# Altium schematic symbol library LITEON.SchLib: 1 symbol
Pins are listed as number, name and electrical type; pins without a type are passive.

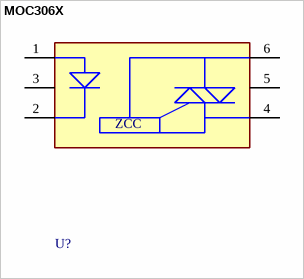
[diagram p0: symbol MOC306X]

## MOC306X
designator U?
pins: 1 A, 2 C, 3 NC, 4 1 MAIN TERMINAL, 5 SUBSTRATE, 6 2 MAIN TERMINAL
text: ZCC